# EAGLE library part CH340G-SOIC16 (library Mylib)
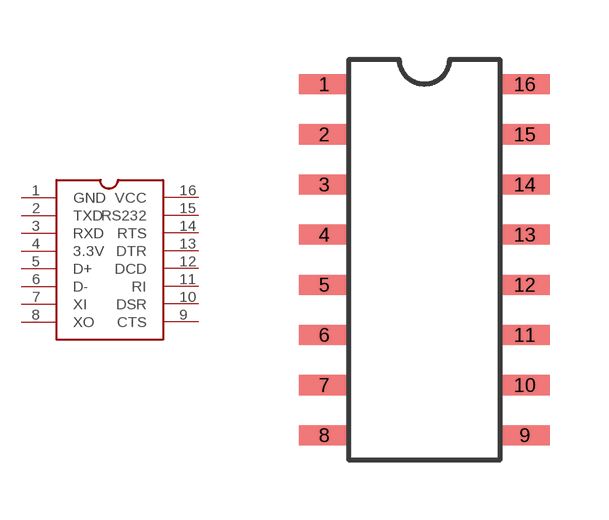
[diagram p8: symbol with the pads of CH340G-SOIC16; footprint CH340G-SOIC16]

Designator prefix -

## CH340G-SOIC16 (DEVICE: 340G)  [CH340G-SOIC16]
1  GND
2  TXD
3  RXD
4  3.3V
5  D+
6  D-
7  XI
8  XO
9  CTS
10  DSR
11  RI
12  DCD
13  DTR
14  RTS
15  RS232
16  VCC

## Footprint CH340G-SOIC16 (pad centres in mm)
smd 1.27 x 0.51: 1 0,8.89; 2 0,7.62; 3 0,6.35; 4 0,5.08; 5 0,3.81; 6 0,2.54; 7 0,1.27; 8 0,0; 9 5.08,0; 10 5.08,1.27; 11 5.08,2.54; 12 5.08,3.81; 13 5.08,5.08; 14 5.08,6.35; 15 5.08,7.62; 16 5.08,8.89